# Altium schematic symbol library misc.SchLib: 12 symbols
Pins are listed as number, name and electrical type; pins without a type are passive.

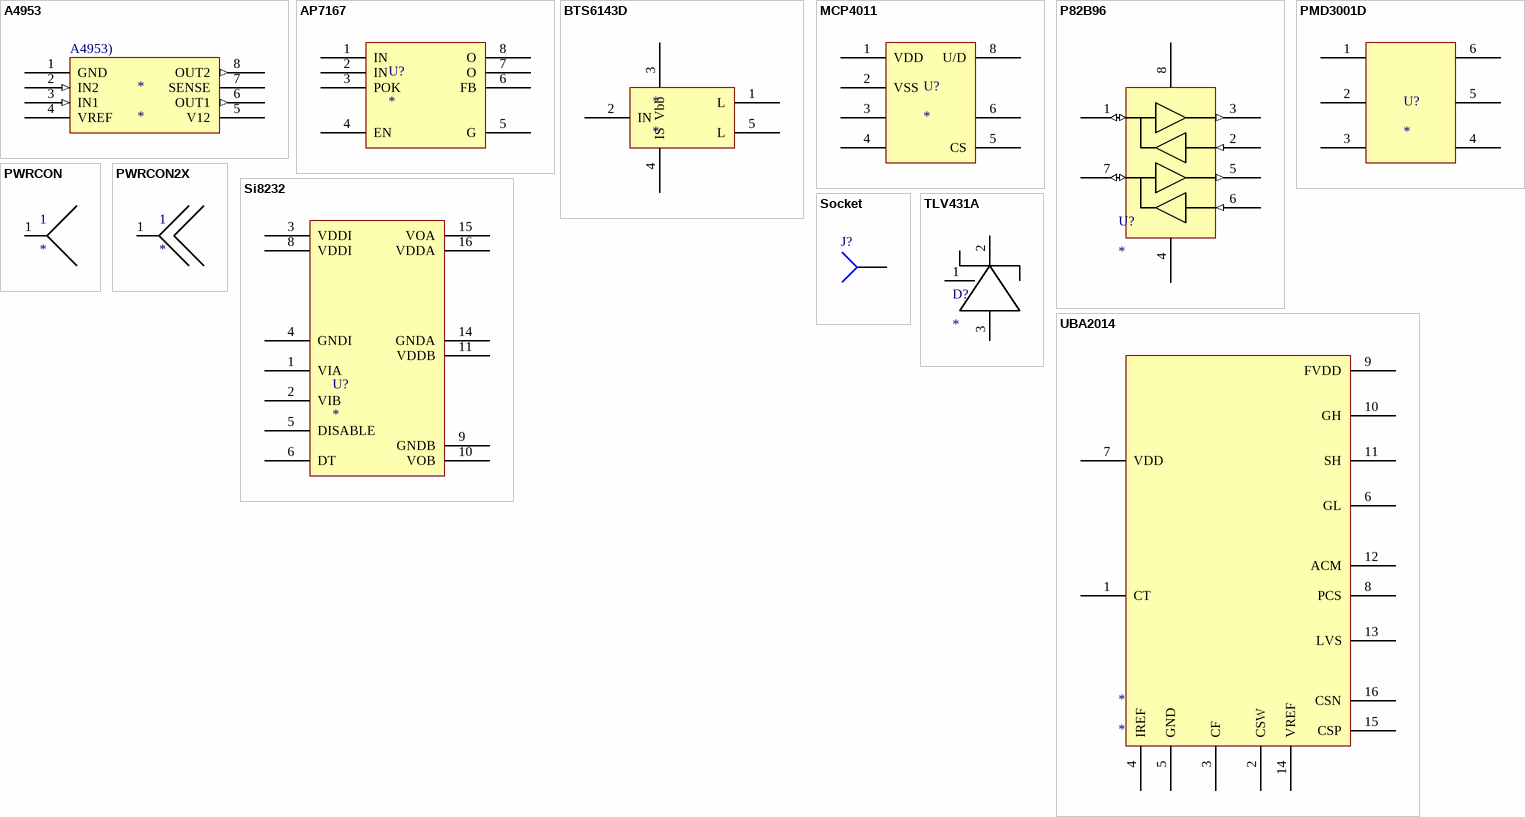
[diagram p0: symbols A4953 to UBA2014]

## A4953
designator *
footprint SOIC150-8_N (8-Pin Plastic Narrow Body Small Outline Integrated Circuit 1.27 mm Pitch, IPC Medium Density)
pins: 1 GND, 2 IN2 (in), 3 IN1 (in), 4 VREF (power), 5 V12 (power), 6 OUT1 (out), 7 SENSE (oe), 8 OUT2 (out)
text: A4953)

## AP7167
designator U?
pins: 1 IN, 2 IN, 3 POK, 4 EN, 5 G, 6 FB, 7 O, 8 O

## BTS6143D
designator *
pins: 1 L, 2 IN, 3 Vbb, 4 IS, 5 L

## MCP4011
designator U?
pins: 1 VDD, 2 VSS, 3 A, 4 W, 5 CS, 6 B, 8 U/D

## P82B96
designator U?
pins: 1 (io), 2 (in), 3 (out), 4, 5 (out), 6 (in), 7 (io), 8

## PMD3001D
designator U?
pins: 1, 2, 3, 4, 5, 6

## PWRCON
designator 1
pins: 1

## PWRCON2X
designator 1
pins: 1

## Si8232
designator U?
pins: 1 VIA, 2 VIB, 3 VDDI, 4 GNDI, 5 DISABLE, 6 DT, 8 VDDI, 9 GNDB, 10 VOB, 11 VDDB, 14 GNDA, 15 VOA, 16 VDDA

## Socket
designator J?
Socket; LatestRevisionDate: 17-Jul-2002; LatestRevisionNote: Re-released for DXP Platform.; Publisher: Altium Limited
footprint PIN1 (Connector; Socket)
signal-integrity model Connector
pins: 1

## TLV431A
designator D?
pins: 1, 2, 3

## UBA2014
designator *
pins: 1 CT, 2 CSW, 3 CF, 4 IREF, 5 GND, 6 GL, 7 VDD, 8 PCS, 9 FVDD, 10 GH, 11 SH, 12 ACM, 13 LVS, 14 VREF, 15 CSP, 16 CSN